# EAGLE library part EA_DOG-M_162 (library midi)
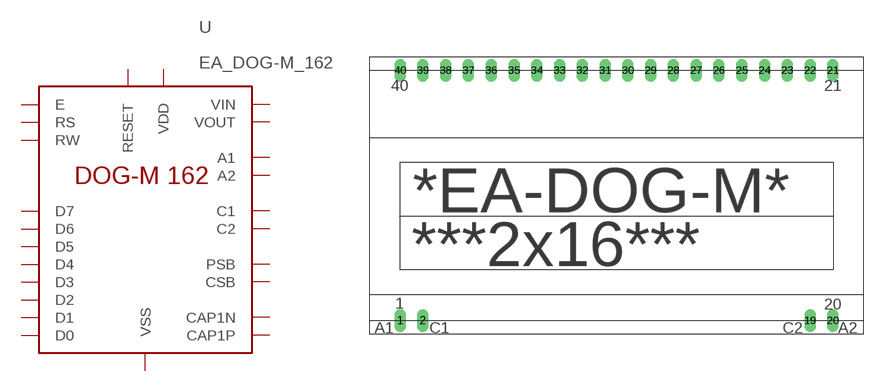
[diagram p2: symbol with the pads of EA_DOG-M; footprint EA_DOG-M]

Designator prefix -

## EA_DOG-M_162  [EA_DOG-M]
1  A1  pas
2  C1  pas
19  C2  pas
20  A2  pas
21  CAP1N
22  CAP1P
23  PSB
24  VOUT
25  VIN
26  VDD  pwr
27  VSS  pwr
28  D7
29  D6
30  D5
31  D4
32  D3
33  D2
34  D1
35  D0
36  E
37  RW
38  CSB
39  RS
40  RESET

## Footprint EA_DOG-M (pad centres in mm)
drill 0.8 long: 1 -24.13,-13.97; 2 -21.59,-13.97; 19 21.59,-13.97; 20 24.13,-13.97; 21 24.13,13.97; 22 21.59,13.97; 23 19.05,13.97; 24 16.51,13.97; 25 13.97,13.97; 26 11.43,13.97; 27 8.89,13.97; 28 6.35,13.97; 29 3.81,13.97; 30 1.27,13.97; 31 -1.27,13.97; 32 -3.81,13.97; 33 -6.35,13.97; 34 -8.89,13.97; 35 -11.43,13.97; 36 -13.97,13.97; 37 -16.51,13.97; 38 -19.05,13.97; 39 -21.59,13.97; 40 -24.13,13.97